# Altium schematic symbol library SLW-115-01-G-S.SchLib: 1 symbol
Pins are listed as number, name and electrical type; pins without a type are passive.

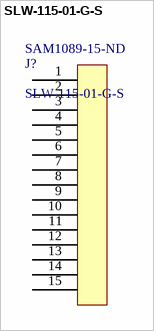
[diagram p0: symbol SLW-115-01-G-S]

## SLW-115-01-G-S
designator J?  Supplier Part Number 1: SAM1089-15-ND
15 Position Receptacle Connector 0.100" (2.54mm) Through Hole Gold; Manufacturer: Samtec; Max Current Rating: 7.1A; Contact Resistance: 10mR; Number of Positions: 15; Max Voltage Rating (AC): 550V; Gender: Female; Supplier 1: Digi-Key; Manufacturer Part Number: SLW-115-01-G-S; Stock 1: 0; Pricing 1: 1=2.44, 10=2.214, 25=2.0784, 50=1.988, 100=1.8976, 250=1.71684, 500=1.5813 (USD); Mount: Through Hole; Contact Plating: Gold; Contact Material: Bronze; Color: Black; Housing Color: Black; Housing Material: Polyester; Min Operating Temperature: -55°C; Max Operating Temperature: 125°C; Number of Rows: 1; Packaging: Bulk; Connector Type: Receptacle; Termination: Solder; Number of Contacts: 15; Orientation: Straight; Voltage Rating (AC): 550V; Package Quantity: 1; Length: 38.1mm; Pitch: 2.54mm; Depth: 2.54mm; Width: 2.54mm; Radiation Hardening: No; Lead Free: Lead Free; ComponentLink1URL: http://suddendocs.samtec.com/prints/slw-1xx-01-x-x-mkt.pdf?src-supplier=Digi-Key; ComponentLink1Description: http://suddendocs.samtec.com/prints/slw-1xx-01-x-x-mkt.pdf?src-supplier=Digi-Key
footprint SAM1089-15-ND (15 Position Receptacle Connector 0.100" (2.54mm) Through Hole Gold)
pins: 1, 2, 3, 4, 5, 6, 7, 8, 9, 10, 11, 12, 13, 14, 15